# Altium footprint library microUSB.PcbLib: 1 footprints
Each footprint in its own frame and in the unit in brackets; x right, y up, seen from the top. Pads: shape width x height; smd on the part's side, far side on the other; paste and mask are expansions set on the pad; w line width, h text height; cw(c..) or ccw(c..) is an arc to the next point about the centre after c.
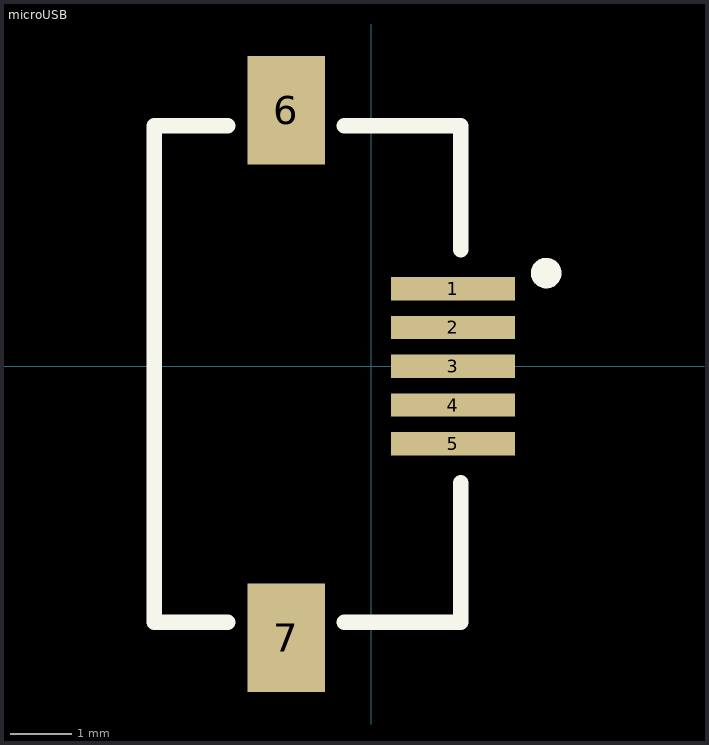
[diagram p0: the footprint, top view; thin cyan lines are the x and y axes]

## microUSB [mil] "USB"
pads (7):
  rect 80x15 smd: 1(52.5,50) 2(52.5,25) 3(52.5,0) 4(52.5,-25) 5(52.5,-50)
  rect 50x70 smd: 6(-55,165) 7(-55,-175)
Top Overlay:
  circle w9.84: c112.58,60 r4.92
  lines w10: -92.5,-165 -140,-165 -140,155 -92.5,155 ; -17.5,-165 57.5,-165 57.5,-75 ; -17.5,155 57.5,155 57.5,75